# EAGLE library part MULTIMEC_DUAL_LED (library taster)
Multimec Switch, with manually added dual LED
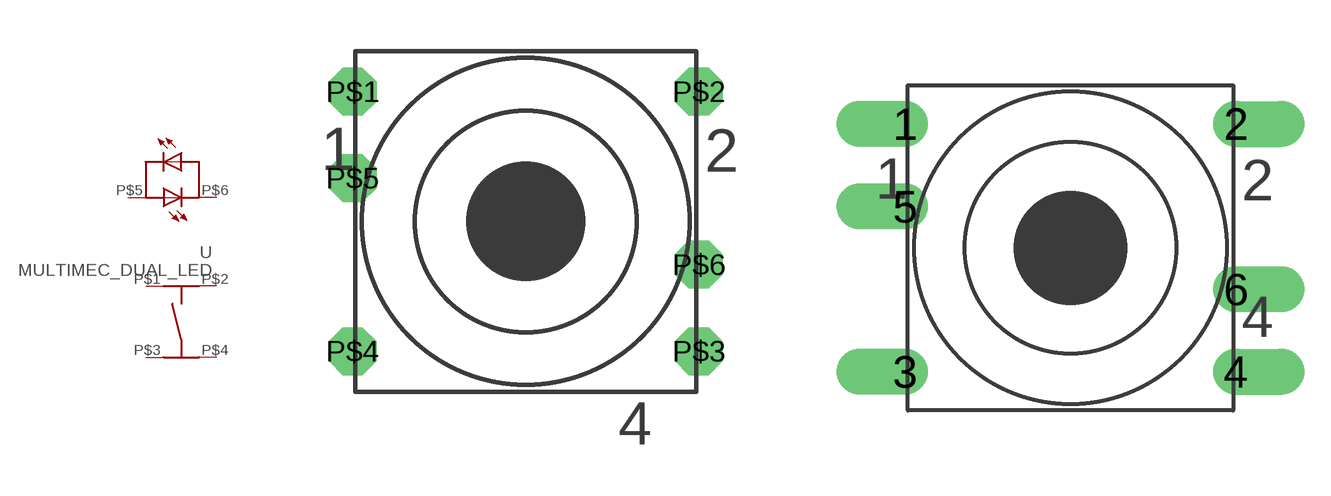
[diagram p1: symbol with the pads of MULTIMEC_TH_LED; footprints MULTIMEC_TH_LED, MULTIMEC_COMB_LED]

Designator prefix -

## MULTIMEC_DUAL_LEDTH  [MULTIMEC_TH_LED]
P$1  1  pas
P$2  2  pas
P$3  3  pas
P$4  4  pas
P$5  A  pas
P$6  C  pas

## MULTIMEC_DUAL_LEDCOMB  [MULTIMEC_COMB_LED]
1  1  pas
2  2  pas
3  4  pas
4  3  pas
5  A  pas
6  C  pas

## MULTIMEC_DUAL_LEDSMD  [MULTIMEC_SMD_LED]
1  1  pas
2  2  pas
3  3  pas
4  4  pas
5  A  pas
6  C  pas

## Footprint MULTIMEC_TH_LED (pad centres in mm)
drill 0.9 octagon: P$1 -5.08,3.81; P$2 5.08,3.81; P$3 5.08,-3.81; P$4 -5.08,-3.81; P$5 -5.08,1.27; P$6 5.08,-1.27

## Footprint MULTIMEC_COMB_LED (pad centres in mm)
Combined - could be used for through hole and smd
drill 0.9 offset: 1 -5.08,3.81; 2 5.08,3.81; 3 -5.08,-3.81; 4 5.08,-3.81; 5 -5.08,1.27; 6 5.08,-1.27

## Footprint MULTIMEC_SMD_LED (pad centres in mm)
Multimec, for SMD, with post fitted LED
smd 2.54 x 1.27: 1 -6.25,3.8; 2 6.25,3.8; 3 -6.25,-3.8; 4 6.25,-3.8; 5 -6.25,1.26; 6 6.25,-1.26